# Altium schematic symbol library STTS75M2F.SchLib: 1 symbol
Pins are listed as number, name and electrical type; pins without a type are passive.

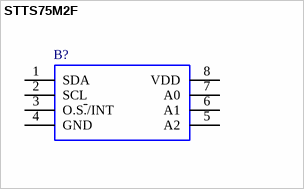
[diagram p0: symbol STTS75M2F]

## STTS75M2F
designator B?
STTS75M2F, 12bit Temperature Sensor +/-3C Serial-I2C 2.7 to 5.5V 8-Pin SOIC; Manufacturer_Name: STMicroelectronics; Geometry.Height: 1.75mm; Mouser Part Number: 511-STTS75M2F; Mouser Price/Stock: https://www.mouser.com/Search/Refine.aspx?Keyword=511-STTS75M2F; Manufacturer_Part_Number: STTS75M2F; Datasheet Link: https://componentsearchengine.com/Datasheets/1/STTS75M2F.pdf
footprint SOIC127P600X175-8N
pins: 1 SDA, 2 SCL, 3 O.S~{.}/INT, 4 GND, 5 A2, 6 A1, 7 A0, 8 VDD